# Altium footprint library QFN50P400X400X80-25T210X210N.PcbLib: 1 footprints
Each footprint in its own frame and in the unit in brackets; x right, y up, seen from the top. Pads: shape width x height; smd on the part's side, far side on the other; paste and mask are expansions set on the pad; w line width, h text height; cw(c..) or ccw(c..) is an arc to the next point about the centre after c.
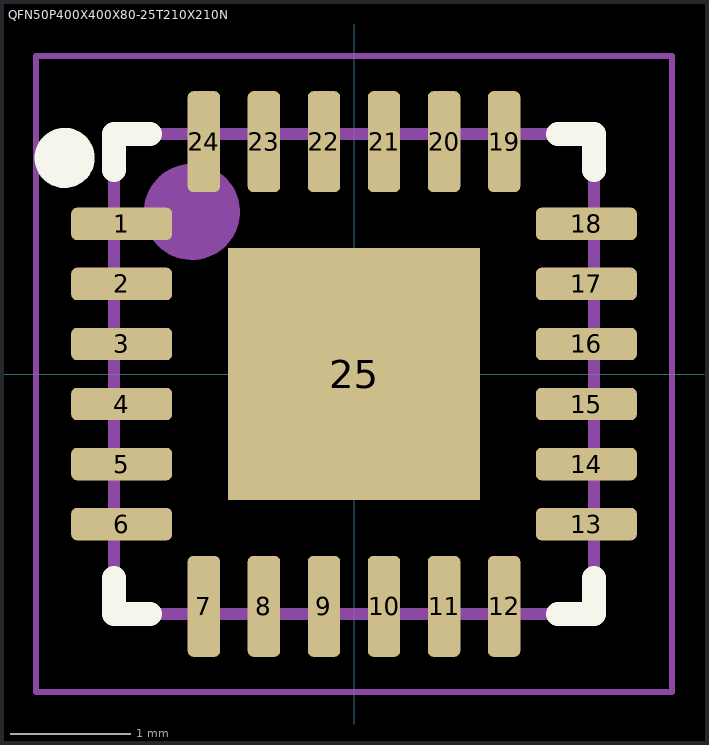
[diagram p0: the footprint, top view; thin cyan lines are the x and y axes]

## QFN50P400X400X80-25T210X210N [mm] "Quad Flat No-Lead (QFN with Tab), 0.50 mm pitch; square, 6 pin X 6 pin, 4.00 mm L X 4.00 mm W X 0.80 mm H body"
height 0.8
pads (25):
  rrect33% 0.84x0.27 smd: 1(-1.935,1.25) 2(-1.935,0.75) 3(-1.935,0.25) 4(-1.935,-0.25) 5(-1.935,-0.75) 6(-1.935,-1.25) 13(1.935,-1.25) 14(1.935,-0.75) 15(1.935,-0.25) 16(1.935,0.25) 17(1.935,0.75) 18(1.935,1.25)
  rrect33% 0.27x0.84 smd: 7(-1.25,-1.935) 8(-0.75,-1.935) 9(-0.25,-1.935) 10(0.25,-1.935) 11(0.75,-1.935) 12(1.25,-1.935) 19(1.25,1.935) 20(0.75,1.935) 21(0.25,1.935) 22(-0.25,1.935) 23(-0.75,1.935) 24(-1.25,1.935)
  rect 2.1x2.1 smd paste-2.1 mask+0: 25(0,0)
Top Overlay:
  circle w0.25: c-2.41,1.8 r0.125
  lines w0.2: -2,-1.7 -2,-2 -1.7,-2 ; -2,1.7 -2,2 -1.7,2 ; 1.7,-2 2,-2 2,-1.7 ; 1.7,2 2,2 2,1.7
Top Paste:
  region: -0.845,-0.845 -0.845,-0.105 -0.105,-0.105 -0.105,-0.845
  region: 0.105,-0.845 0.105,-0.105 0.845,-0.105 0.845,-0.845
  region: -0.845,0.105 -0.845,0.845 -0.105,0.845 -0.105,0.105
  region: 0.105,0.105 0.105,0.845 0.845,0.845 0.845,0.105
Top Assembly:
  circle w0.4: c-1.35,1.35 r0.2
  lines w0.1: -2,-2 -2,2 2,2 2,-2 -2,-2
Top Courtyard:
  lines w0.05: -2.65,-2.65 -2.65,2.65 2.65,2.65 2.65,-2.65 -2.65,-2.65
Top Designator:
  text ".Designator" at -0.5,-0.5 h1
Top Component Center:
  lines w0.05: -0.5,0 0.5,0 ; 0,-0.5 0,0.5
3D body "QFN50P400X400X80-25T210X210.STEP": height 0.8, standoff 0, extent -2.05,-2.05 2.05,2.05